# Altium schematic symbol library PBL - Electromechanical.SCHLIB: 7 symbols
Pins are listed as number, name and electrical type; pins without a type are passive.

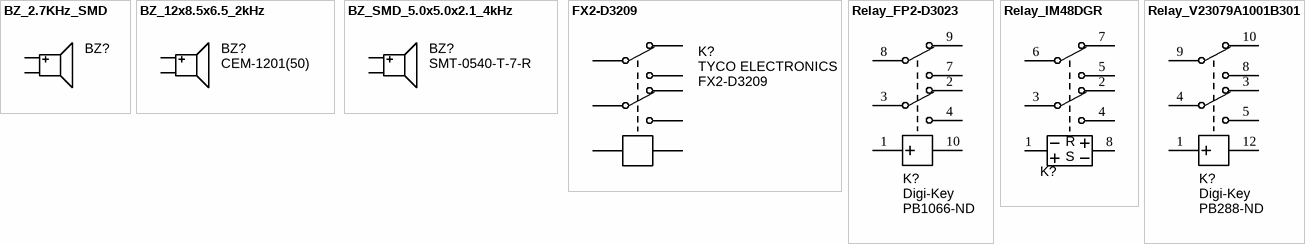
[diagram p0: symbols BZ_2.7KHz_SMD to Relay_V23079A1001B301]

## BZ_2.7KHz_SMD
designator BZ?, comment CMI-9653S-SMT-TR  (value not drawn)
DC Buzzer Single Tone 2.7kHz Magnetic 2 ~ 5V 75dB @ 3V, 10cm; Manufacturer: CUI Inc.; Driver Circuitry: Indicator, Internally Driven; Voltage Range: 2 ~ 5V; Current - Supply: 30mA; Port Location: Top; Ratings: Washable; Supplier 1: Digi-Key; Supplier Part Number 1: 102-3737-1-ND; Manufacturer Part Number: CMI-9653S-SMT-TR; Packaging: Cut Tape (CT); Part Status: Active; Input Type: DC; Voltage - Rated: 3V; Frequency: 2.7kHz; Technology: Magnetic; Operating Mode: Single Tone; Duration: -; Sound Pressure Level: 75dB @ 3V, 10cm; Operating Temperature: -20°C ~ 70°C; Approvals: -; Mounting Type: Surface Mount; Termination: Solder Pads; Size / Dimension: 0.378" L x 0.378" W (9.60mm x 9.60mm); Height - Seated (Max): 0.217" (5.50mm); ComponentLink1URL: http://www.cui.com/product/resource/digikeypdf/cmi-9653s-smt.pdf; ComponentLink1Description: http://www.cui.com/product/resource/digikeypdf/cmi-9653s-smt.pdf; RoHS: RoHS Compliant; Category: Audio Products; Stock 1: 432; Pricing 1: 1=4.05, 10=3.353, 25=3.1432, 50=2.794, 100=2.5146, 250=2.31904 (USD)
footprint BUZZER_CMI-9653S-SMT (Buzzer SMD sealed 12.8 L x 12.8 W x 7.6mm H 5Vp)
pins: 1 Positive, 2 Negative

## BZ_12x8.5x6.5_2kHz
designator BZ?, comment Manufacturer Part Number 1: CEM-1201(50)  (hidden comment: Alternate part: 3100-932)
Speaker, Magnetic Transducer; Manufacturer 1: CUI Inc; Ratings: 2048 ±200 Hz; SCDType: source; Package / Case: 6.5mm pitch; Material: Noryl SE1-J; Supplier 1: Digi-Key; Supplier Part Number 1: 102-1152-ND
footprint BUZZER_12.0X8.5MM
pins: 1 Positive, 2 Negative

## BZ_SMD_5.0x5.0x2.1_4kHz
designator BZ?, comment Manufacturer Part Number 1: SMT-0540-T-7-R  (hidden comment: buzzer SMD)
Buzzer SMD sealed 5.0x5.0x2.1mm LWH 3Vp; Manufacturer 1: PUI Audio, Inc.; Ratings: 4000 ±500 Hz; SCDType: source; Input Type: peak-peak Signal; Frequency: 4kHz; Operating Mode: Continuous; Sound Pressure Level: 78dBA @ 10cm; Package / Case: 5.0x5.0x2.1mm; Technology: Magnetic; Supplier 1: Digi-Key; Supplier Part Number 1: 668-1207-1-ND; RoHS 1: RoHS Compliant; ComponentLink1URL: http://www.puiaudio.com/pdf/SMT-0540-T-7-R.pdf; ComponentLink1Description: http://www.puiaudio.com/pdf/SMT-0540-T-7-R.pdf
footprint BUZZER_SMT28 (Buzzer SMD sealed 5.0 L x 5.0 W x 2.0mm H 5Vp)
pins: 1 Positive, 2 Negative

## FX2-D3209
designator K?  Manufacturer 1: TYCO ELECTRONICS  Manufacturer Part Number 1: FX2-D3209  (hidden comment: *)
TYCO ELECTRONICS - FX2-D3209 - RELAY, PCB, DPCO, 5VDC; Voltage, Coil DC Nom: 5; Coil Resistance: 178; No. of Poles: 2; Contact Configuration: DPDT; Voltage, Contact AC Max: 250; Voltage, Contact DC Max: 220; SCDType: undef; Supplier 1: Newark; Supplier Part Number 1: 97K0381; Category: Switches & Relays; Series: FX2; Max Contact Current AC: 2; ComponentLink1URL: http://www.farnell.com/datasheets/68394.pdf; ComponentLink1Description: http://www.farnell.com/datasheets/68394.pdf
footprint Relay_Tyco_FX2 (Tyco FX2 DPDT 5VDC Relay)
pins: 1, 2, 3, 4, 5, 6, 7, 8

## Relay_FP2-D3023
designator K?, comment Supplier 1: Digi-Key  Supplier Part Number 1: PB1066-ND  (hidden comment: Polarized Monostable DPCO)
Relay, THT, Low-profile, DPDT DPCO Telecom, 5VDC; Manufacturer 1: Tyco Electronics; Manufacturer Part Number 1: D3023; Circuit: DPDT (2 Form C); Control Off Voltage (Min): 0.5 VDC; Control On Voltage (Max): 3.75 VDC; Coil Current: 16mA; Coil Type: Standard; Ratings: 2A @ 30VDC; SCDType: undef; Category: Relays; Termination Style: PC Pin; Coil Voltage: 5VDC; Value: 5VDC; ComponentLink1Description: http://ecommas.tycoelectronics.com/commerce/DocumentDelivery/DDEController?Action=showdoc&DocId=Specification+Or+Standard%7F108-98005%7FE%7Fpdf%7FEnglish%7FENG_SS_108-98005_E.pdf; ComponentLink1URL: http://ecommas.tycoelectronics.com/commerce/DocumentDelivery/DDEController?Action=showdoc&DocId=Specification+Or+Standard%7F108-98005%7FE%7Fpdf%7FEnglish%7FENG_SS_108-98005_E.pdf; Contact Rating @ Voltage: 2A @ 30VDC; Mounting Type: Through Hole; Relay Type: Telecom
footprint Relay_Tyco_FP2 (Tyco FP2 DPDT 5VDC Relay)
pins: 1, 2, 3, 4, 7, 8, 9, 10

## Relay_IM48DGR
designator K?, comment Polarized Monostable DPCO  (value not drawn)
Relay SMD Telecom DPDT latching 2.4VDC; Manufacturer 1: TE Connectivity; Manufacturer Part Number 1: IM48DGR; Circuit: DPDT (2 Form C); Coil Current: 41.7mA; Coil Type: Latching, Single Coil; Ratings: 2A @ 30VDC; Coil Resistance: 58 Ohms; Coil Power: 100 mW; SCDType: undef; Coil Voltage: 2.4VDC; Value: 2.4VDC; Supplier 1: Digi-Key; Supplier Part Number 1: PB1175CT-ND
footprint Relay_TE_IM-Series_Gull (TE Connectivity IM48DGR latching relay, gullwing SMD)
pins: 1, 2, 3, 4, 5, 6, 7, 8
text: R; S

## Relay_V23079A1001B301
designator K?, comment Supplier 1: Digi-Key  Supplier Part Number 1: PB288-ND  (hidden comment: Polarized DPCO)
Relay, PCB Mount, DPDT, Polarized Monostable; Manufacturer 1: Tyco Electronics; Manufacturer Part Number 1: V23079A1001B301; Circuit: DPDT (2 Form C); Coil Voltage: 5VDC; Control Off Voltage (Min): 0.5 VDC; Control On Voltage (Max): 3.75 VDC; Coil Current: 28mA; Coil Type: Standard; Ratings: 2A @ 30VDC; Value: 5VDC; SCDType: undef; Category: Relays; Termination Style: PC Pin
footprint Relay_Tyco_P2 (Tyco P2 DPDT 5VDC V23079 Relay)
pins: 1, 3, 4, 5, 8, 9, 10, 12